# Altium footprint library BC546BTF.PcbLib: 1 footprints
Each footprint in its own frame and in the unit in brackets; x right, y up, seen from the top. Pads: shape width x height; smd on the part's side, far side on the other; paste and mask are expansions set on the pad; w line width, h text height; cw(c..) or ccw(c..) is an arc to the next point about the centre after c.
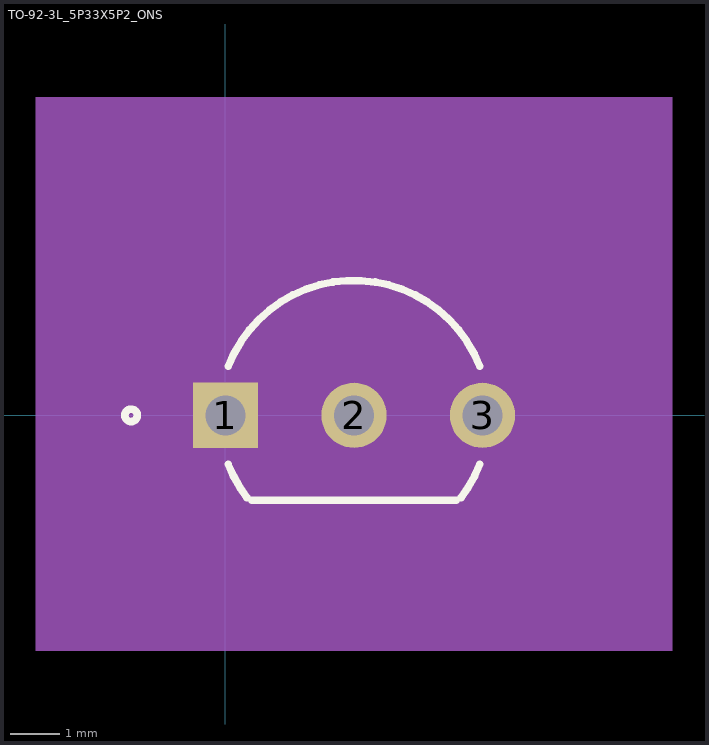
[diagram p0: the footprint, top view; thin cyan lines are the x and y axes]

## TO-92-3L_5P33X5P2_ONS [mil]
pads (3):
  rect 52x52 hole 32 mask+0: 1(0,0)
  round 52 hole 32 mask+0: 2(102.36,0) 3(204.72,0)
Top Overlay:
  circle w6: c-75.14,0 r5
  lines w6: 2.23,-39.1 ccw(c102.36,0) 17.16,-65.55 ; 2.23,39.1 cw(c102.36,0) 202.52,39.04 ; 21.12,-67.5 183.6,-67.5 ; 187.57,-65.55 ccw(c102.36,0) 202.52,-39.04
Mechanical 5:
  region: -151,253.36 355.72,253.36 355.72,-187.5 -151,-187.5
Mechanical 13:
  circle w0: c9.86,0 r5
  lines w0: 21.12,-62.5 cw(c102.36,0) 183.6,-62.5
  lines w1: 21.12,-62.5 183.6,-62.5
  lines w6: -10,0 10,0 ; 0,-10 0,10
Mechanical 15:
  region: 240.72,-72.5 -36,-72.5 -36,138.36 240.72,138.36
  lines w6: -36,-72.5 -36,138.36 240.72,138.36 240.72,-72.5 -36,-72.5
3D body "TO-92-3L_5P33X5P2_ONS.step": height 210, standoff -235, extent -10.98,-42.52 215.71,102.5